# Altium schematic symbol library U_TPS2051CDBV.SchLib: 1 symbol
Pins are listed as number, name and electrical type; pins without a type are passive.

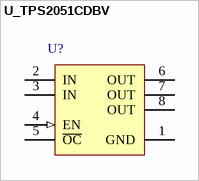
[diagram p0: symbol U_TPS2051CDBV]

## U_TPS2051CDBV
designator U?
pins: 1 GND (power) "Ground", 2 IN (power) "Input voltage", 3 IN (power) "Input voltage", 4 EN (in) "Enable input, logic low turns on power switch", 5 ~{OC} (oc) "Overcurrent open-drain output, active-low", 6 OUT (power) "Power-switch output", 7 OUT (power) "Power-switch output", 8 OUT (power) "Power-switch output"